# EAGLE library part HEADER_6_SIP6_HEADER_6 (library BeagleBone_Black_egl)
HEADER_6_SIP6_HEADER_6
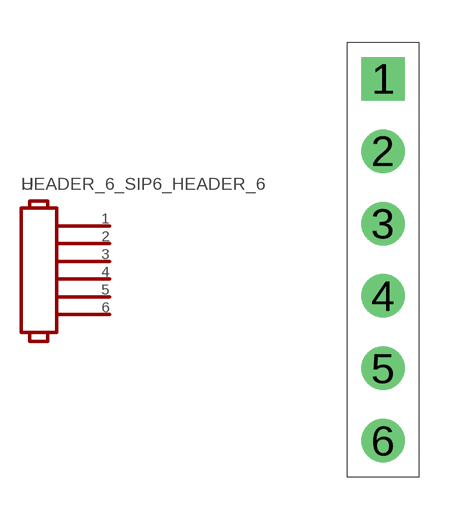
[diagram p6: symbol with the pads of SIP6; footprint SIP6]

Designator prefix -

## HEADER_6_SIP6_HEADER_6  [SIP6]
1  1
2  2
3  3
4  4
5  5
6  6

## Footprint SIP6 (pad centres in mm)
drill 1.016 pad 1.524 square: 1 0,0
drill 1.016 pad 1.524: 2 0,-2.54; 3 0,-5.08; 4 0,-7.62; 5 0,-10.16; 6 0,-12.7